# EAGLE library part AON3419 (library vikc-transistor)
MOSFET P-CH 30V 10A DFN P-Channel 30V 10A (Tc) 3.1W (Ta) Surface Mount 8-DFN (2.9x2.3)
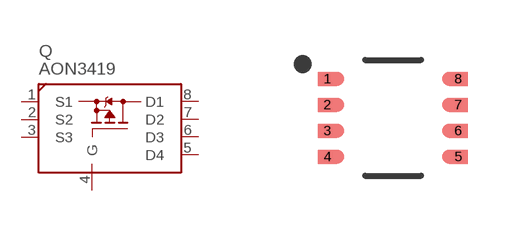
[diagram p2: symbol with the pads of DFN8-MF; footprint DFN8-MF]

Designator prefix Q

## AON3419  [DFN8-MF]
1  S1  pas
2  S2  pas
3  S3  pas
4  G  pas
5  D4  pas
6  D3  pas
7  D2  pas
8  D1  pas

## Footprint DFN8-MF (pad centres in mm)
smd 0.475 x 0.35: 1 -1.637,0.975; 2 -1.637,0.325; 3 -1.637,-0.325; 4 -1.637,-0.975; 5 1.637,-0.975; 6 1.637,-0.325; 7 1.637,0.325; 8 1.637,0.975